# Altium schematic symbol library Capacitor TH.SchLib: 57 symbols
Pins are listed as number, name and electrical type; pins without a type are passive.

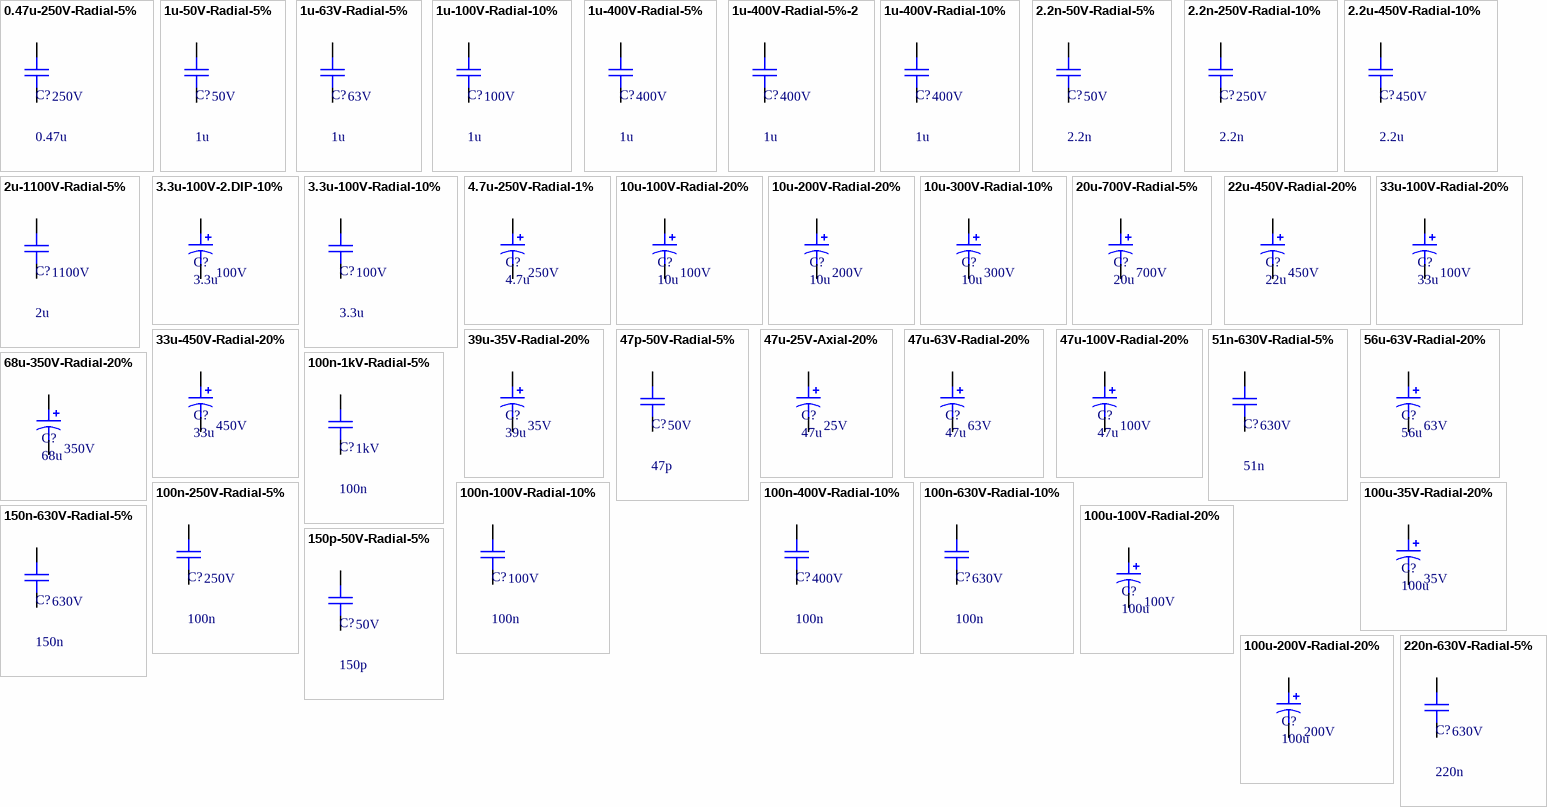
[diagram p0: symbols 0.47u-250V-Radial-5% to 220n-630V-Radial-5%]

## 0.47u-250V-Radial-5%
designator C?, comment 0.47u  VoltageRating: 250V
Capacitor, 0.47uF, 250V Voltage Rating, Radial Package; ManufacturerReference: R75II3470AA40J; ManufacturerName: KEMET; InventoryNumber: CAP049; Material: Film; Other: 5%, Polypropylene; PackageReference: Radial; DistributorReference: 399-5914-ND; DistributorName: Digikey; Value: 0.47uF; Category: Capacitor
pins: 1, 2

## 1u-50V-Radial-5%
designator C?, comment 1u  VoltageRating: 50V
Capacitor, 1uF, 50V Voltage Rating, Radial Package; ManufacturerReference: ECQ-V1H105JL; ManufacturerName: Panasonic Electronic Components; InventoryNumber: CAP054; Material: Film; Other: 5%, Polyester; PackageReference: Radial; DistributorReference: P4675-ND; DistributorName: Digikey; Value: 1uF; Category: Capacitor
pins: 1, 2

## 1u-63V-Radial-5%
designator C?, comment 1u  VoltageRating: 63V
Capacitor, 1uF, 63V Voltage Rating, Radial Package; InventoryNumber: CAP055; Material: Film; Other: 5%, Polyester; PackageReference: Radial; DistributorReference: 94M8808(NK); DistributorName: Digikey; Value: 1uF; Category: Capacitor
pins: 1, 2

## 1u-100V-Radial-10%
designator C?, comment 1u  VoltageRating: 100V
Capacitor, 1uF, 100V Voltage Rating, Radial Package; InventoryNumber: CAP056; Material: MLCC; Other: 10%, X7R; PackageReference: Radial; DistributorReference: 36K6241(NK); DistributorName: Digikey; Value: 1uF; Category: Capacitor
pins: 1, 2

## 1u-400V-Radial-5%
designator C?, comment 1u  VoltageRating: 400V
Capacitor, 1uF, 400V Voltage Rating, Radial Package; ManufacturerReference: ECW-F4105JB; ManufacturerName: Panasonic Electronic Components; InventoryNumber: CAP059; Material: Film; Other: 5%, Polypropylene; PackageReference: Radial; DistributorReference: PF4105-ND; DistributorName: Digikey; Value: 1uF; Category: Capacitor
pins: 1, 2

## 1u-400V-Radial-5%-2
designator C?, comment 1u  VoltageRating: 400V
Capacitor, 1uF, 400V Voltage Rating, Radial Package; ManufacturerReference: BFC237954105; ManufacturerName: Vishay BC Components; InventoryNumber: CAP060; Material: Film; Other: 5%, Polypropylene; PackageReference: Radial; DistributorReference: BFC237954105-ND; DistributorName: Digikey; Value: 1uF; Category: Capacitor
pins: 1, 2

## 1u-400V-Radial-10%
designator C?, comment 1u  VoltageRating: 400V
Capacitor, 1uF, 400V Voltage Rating, Radial Package; ManufacturerReference: ECQ-E4105KF; ManufacturerName: Panasonic Electronic Components; InventoryNumber: CAP058; Material: Film; Other: 10%, Polyester; PackageReference: Radial; DistributorReference: EF4105-ND; DistributorName: Digikey; Value: 1uF; Category: Capacitor
pins: 1, 2

## 2.2n-50V-Radial-5%
designator C?, comment 2.2n  VoltageRating: 50V
Capacitor, 2.2nF, 50V Voltage Rating, Radial Package; ManufacturerReference: B37979G5222J051; ManufacturerName: EPCOS (TDK); InventoryNumber: CAP021; Material: Ceramic; Other: 5%, C0G; PackageReference: Radial; DistributorReference: 495-3286-2-ND; DistributorName: Digikey; Value: 2.2nF; Category: Capacitor
pins: 1, 2

## 2.2n-250V-Radial-10%
designator C?, comment 2.2n  VoltageRating: 250V
Capacitor, 2.2nF, 250V Voltage Rating, Radial Package; ManufacturerReference: FK24X7R2E222K; ManufacturerName: TDK Corporation; InventoryNumber: CAP022; Material: Ceramic; Other: 10%, X7R; PackageReference: Radial; DistributorReference: 445-2629-ND; DistributorName: Digikey; Value: 2.2nF; Category: Capacitor
pins: 1, 2

## 2.2u-450V-Radial-10%
designator C?, comment 2.2u  VoltageRating: 450V
Capacitor, 2.2uF, 450V Voltage Rating, Radial Package; ManufacturerReference: ECQ-E2W225KH; ManufacturerName: Panasonic Electronic Components; InventoryNumber: CAP103; Material: Film; Other: 10%, Polyester; PackageReference: Radial; DistributorReference: E6829-ND; DistributorName: Digikey; Value: 2.2uF; Category: Capacitor
pins: 1, 2

## 2u-1100V-Radial-5%
designator C?, comment 2u  VoltageRating: 1100V
Capacitor, 2uF, 1100V Voltage Rating, Radial Package; ManufacturerReference: MKP1848520914K2; ManufacturerName: Vishay BC Components; InventoryNumber: CAP104; Material: Film; Other: 5%, Polypropylene; PackageReference: Radial; DistributorReference: MKP1848520914K2-ND; DistributorName: Digikey; Value: 2uF; Category: Capacitor
pins: 1, 2

## 3.3u-100V-2.DIP-10%
designator C?, comment 3.3u  VoltageRating: 100V
Polarized Capacitor, 3.3uF, 100V Voltage Rating, 2-DIP Package; ManufacturerReference: B32562J1335K000; ManufacturerName: EPCOS (TDK); Other: 10%; InventoryNumber: CAP220; Material: Polyester; PackageReference: 2-DIP; DistributorReference: 495-6851-ND; DistributorName: Digikey; Value: 3.3uF
pins: 1, 2

## 3.3u-100V-Radial-10%
designator C?, comment 3.3u  VoltageRating: 100V
Capacitor, 3.3uF, 100V Voltage Rating, Radial Package; ManufacturerReference: B32562J1335K189; ManufacturerName: EPCOS (TDK); InventoryNumber: CAP105; Material: Film; Other: 10%, Polyester; PackageReference: Radial; DistributorReference: B32562J1335K189-ND; DistributorName: Digikey; Value: 3.3uF; Category: Capacitor
pins: 1, 2

## 4.7u-250V-Radial-1%
designator C?, comment 4.7u  VoltageRating: 250V
Polarized Capacitor, 4.7u, 250V Voltage Rating, Radial Package; ManufacturerReference: ECQ-E2475KF; ManufacturerName: Panasonic Electronic Components; Value: 4.7uF; Other: 1%, Polyester; InventoryNumber: CAP110; Material: Film; PackageReference: Radial; DistributorReference: EF2475-ND; DistributorName: Digikey
pins: 1, 2

## 10u-100V-Radial-20%
designator C?, comment 10u  VoltageRating: 100V
Polarized Capacitor, 10uF, 100V Voltage Rating, Radial Package; ManufacturerReference: PLV2A100MDL1; ManufacturerName: Nichicon; Other: 20%, 3000hr @105C, 42mohm-ESR; InventoryNumber: CAP119; Material: Alum; PackageReference: Radial; DistributorReference: 493-14192-ND; DistributorName: Digikey; Value: 10uF
pins: 1, 2

## 10u-200V-Radial-20%
designator C?, comment 10u  VoltageRating: 200V
Polarized Capacitor, 10uF, 200V Voltage Rating, Radial Package; ManufacturerReference: UCS2D100MPD1TD; ManufacturerName: Nichicon; Other: 20%, 8000hr @105C; InventoryNumber: CAP117; Material: Alum; PackageReference: Radial; DistributorReference: 493-4740-1-ND; DistributorName: Digikey; Value: 10u
pins: 1, 2

## 10u-300V-Radial-10%
designator C?, comment 10u  VoltageRating: 300V
Polarized Capacitor, 10uF, 300V Voltage Rating, Radial Package; ManufacturerReference: B32674D3106K000; ManufacturerName: EPCOS (TDK); Other: 10%, Polypropylene; InventoryNumber: CAP118; Material: Film; PackageReference: Radial; DistributorReference: 495-2915-ND; DistributorName: Digikey; Value: 10uF
pins: 1, 2

## 20u-700V-Radial-5%
designator C?, comment 20u  VoltageRating: 700V
Polarized Capacitor, 20uF, 700V Voltage Rating, Radial Package; ManufacturerReference: MKP1848620704P4; ManufacturerName: Vishay BC Components; Other: 5%, Polypropylene; InventoryNumber: CAP120; Material: Film; PackageReference: Radial; DistributorReference: BC2621-ND; DistributorName: Digikey; Value: 20uF
pins: 1, 2

## 22u-450V-Radial-20%
designator C?, comment 22u  VoltageRating: 450V
Polarized Capacitor, 22uF, 450V Voltage Rating, Radial Package; ManufacturerReference: UVR2W220MHD; ManufacturerName: Nichicon; Other: 20%, 85C; InventoryNumber: CAP122; Material: Alum; PackageReference: Radial; DistributorReference: 493-1242-ND; DistributorName: Digikey; Value: 22uF
pins: 1, 2

## 33u-100V-Radial-20%
designator C?, comment 33u  VoltageRating: 100V
Polarized Capacitor, 33uF, 100V Voltage Rating, Radial Package; ManufacturerReference: ECA-2AM330; ManufacturerName: Panasonic Electronic Components; Other: 20%, 85C; InventoryNumber: CAP123; Material: Alum; PackageReference: Radial; DistributorReference: P5311-ND; DistributorName: Digikey; Value: 33uF
pins: 1, 2

## 33u-450V-Radial-20%
designator C?, comment 33u  VoltageRating: 450V
Polarized Capacitor, 33uF, 450V Voltage Rating, Radial Package; ManufacturerReference: ESG336M450AM2AA; ManufacturerName: KEMET; Other: 20%, 5000hr@105C, 1.3ohm-ESR; InventoryNumber: CAP124; Material: Alum; PackageReference: Radial; DistributorReference: 399-6540-ND; DistributorName: Digikey; Value: 33uF
pins: 1, 2

## 39u-35V-Radial-20%
designator C?, comment 39u  VoltageRating: 35V
Polarized Capacitor, 39uF, 35V Voltage Rating, Radial Package; ManufacturerReference: EEU-FC1V390H; ManufacturerName: Panasonic Electronic Components; Other: 20%, 85C (Obsolete); InventoryNumber: CAP125; Material: Alum; PackageReference: Radial; DistributorReference: EEU-FC1V390H-ND; DistributorName: Digikey; Value: 39uF
pins: 1, 2

## 47p-50V-Radial-5%
designator C?, comment 47p  VoltageRating: 50V
Capacitor, 47pF, 50V Voltage rating, Radial package; ManufacturerReference: FK28C0G1H470J; ManufacturerName: TDK Corporation; InventoryNumber: CAP005; Material: MLCC; Other: 5%, C0G; PackageReference: RADIAL; DistributorReference: 445-4722-ND; DistributorName: Digikey; Value: 47pF; Category: Capacitor
pins: 1, 2

## 47u-25V-Axial-20%
designator C?, comment 47u  VoltageRating: 25V
Polarized Capacitor, 47uF, 25V Voltage Rating, Axial Package; ManufacturerReference: MAL213836479E3; ManufacturerName: Vishay BC Components; Other: 20%, 4.7ohm-ESR, 105C; InventoryNumber: CAP127; Material: Alum; PackageReference: Axial; DistributorReference: 4214PHCT-ND; DistributorName: Digikey; Value: 47uF
pins: 1, 2

## 47u-63V-Radial-20%
designator C?, comment 47u  VoltageRating: 63V
Polarized Capacitor, 47uF, 63V Voltage Rating, Radial Package; ManufacturerReference: PLV1J470MDL1TD; ManufacturerName: Nichicon; Other: 20%, 29mohm-ESR, 105C; InventoryNumber: CAP128; Material: Alum; PackageReference: Radial; DistributorReference: 493-3874-1-ND; DistributorName: Digikey; Value: 47uF
pins: 1, 2

## 47u-100V-Radial-20%
designator C?, comment 47u  VoltageRating: 100V
Polarized Capacitor, 47uF, 100V Voltage Rating, Radial Package; ManufacturerReference: UVY2A470MPD1TD; ManufacturerName: Nichicon; Other: 20%, 105C; InventoryNumber: CAP129; Material: Alum; PackageReference: Radial; DistributorReference: 493-12955-3-ND; DistributorName: Digikey; Value: 47uF
pins: 1, 2

## 51n-630V-Radial-5%
designator C?, comment 51n  VoltageRating: 630V
Capacitor, 51nF, 630V Voltage Rating, Radial Package; ManufacturerReference: BFC238320513; ManufacturerName: Vishay BC Components; InventoryNumber: CAP032; Material: Film; Other: 5%, Polypropylene; PackageReference: Radial; DistributorReference: BC1873-ND; DistributorName: Digikey; Value: 51nF; Category: Capacitor
pins: 1, 2

## 56u-63V-Radial-20%
designator C?, comment 56u  VoltageRating: 63V
Polarized Capacitor, 56uF, 63V Voltage Rating, Radial Package; ManufacturerReference: RNU1J560MDN1PH; ManufacturerName: Nichicon; Other: 20%,25mohm-ESR, 105C; InventoryNumber: CAP201; Material: Alum; PackageReference: Radial; DistributorReference: 493-6641-1-ND; DistributorName: Digikey; Value: 56uF
pins: 1, 2

## 68u-350V-Radial-20%
designator C?, comment 68u  VoltageRating: 350V
Polarized Capacitor, 68uF, 350V Voltage Rating, Radial Package; ManufacturerReference: EEU-ED2V680S; ManufacturerName: Panasonic Electronic Components; Other: 20%, 105C; InventoryNumber: CAP130; Material: Alum; PackageReference: Radial; DistributorReference: P13556-ND; DistributorName: Digikey; Value: 68uF
pins: 1, 2

## 100n-1kV-Radial-5%
designator C?, comment 100n  VoltageRating: 1kV
Capacitor, 100nF, 1kV Voltage Rating, Radial Package; ManufacturerReference: B32652A0104J000; ManufacturerName: EPCOS (TDK); InventoryNumber: CAP041; Material: Film; Other: 5%, Polypropylene; PackageReference: Radial; DistributorReference: 495-1356-ND; DistributorName: Digikey; Value: 100nF; Category: Capacitor
pins: 1, 2

## 100n-100V-Radial-10%
designator C?, comment 100n  VoltageRating: 100V
Capacitor, `100nF, 100V Voltage Rating, Radial Package; ManufacturerReference: SR201C104KAR; ManufacturerName: AVX Corporation; InventoryNumber: CAP034; Material: Ceramic; Other: 10%, X7R; Value: 100nF; PackageReference: Radial; DistributorReference: 478-4855-ND; DistributorName: Digikey; Category: Capacitor
pins: 1, 2

## 100n-250V-Radial-5%
designator C?, comment 100n  VoltageRating: 250V
Capacitor, 100nF, 250V Voltage Rating, Radial Package; ManufacturerReference: ECW-F2104JB; ManufacturerName: Panasonic Electronic Components; InventoryNumber: CAP038; Material: Film; Other: 5%, Polypropylene; PackageReference: Radial; DistributorReference: PF2104-ND; DistributorName: Digikey; Value: 100nF; Category: Capacitor
pins: 1, 2

## 100n-400V-Radial-10%
designator C?, comment 100n  VoltageRating: 400V
Capacitor, 100nF, 400V Voltage Rating, Radial Package; ManufacturerReference: ECQ-E4104KF; ManufacturerName: Panasonic Electronic Components; InventoryNumber: CAP039; Material: Film; Other: 10%, Polyester; PackageReference: Radial; DistributorReference: EF4104-ND; DistributorName: Digikey; Value: 100nF; Category: Capacitor
pins: 1, 2

## 100n-630V-Radial-10%
designator C?, comment 100n  VoltageRating: 630V
Capacitor, 100nF, 630V Voltage Rating, Ceramic Package; ManufacturerReference: RDER72J104K4K1H03B; ManufacturerName: Murata Electronics North America; InventoryNumber: CAP040; Other: 10%,X7R; PackageReference: Radial; DistributorReference: 490-8928-ND; DistributorName: Digikey; Material: Ceramic; Value: 100nF; Category: Capacitor
pins: 1, 2

## 100u-35V-Radial-20%
designator C?, comment 100u  VoltageRating: 35V
Polarized Capacitor, 100uF, 35V Voltage Rating, Radial Package; ManufacturerReference: ECA-1VM101; ManufacturerName: Panasonic Electronic Components; Other: 20%, 85C; InventoryNumber: CAP203; Material: Alum; PackageReference: Radial; DistributorReference: P5165-ND; DistributorName: Digikey; Value: 100uF
pins: 1, 2

## 100u-100V-Radial-20%
designator C?, comment 100u  VoltageRating: 100V
Polarized Capacitor, 100uF, 100V Voltage Rating, Radial Package; ManufacturerReference: UHE2A101MPD; ManufacturerName: Nichicon; Other: 20%, 105C; InventoryNumber: CAP204; Material: Alum; PackageReference: Radial; DistributorReference: 493-1668-ND; DistributorName: Digikey; Value: 100uF
pins: 1, 2

## 100u-200V-Radial-20%
designator C?, comment 100u  VoltageRating: 200V
Polarized Capacitor, 100uF, 200V Voltage Rating, Radial Package; ManufacturerReference: EEU-EB2D101; ManufacturerName: Panasonic Electronic Components; Other: 20%, 105C; InventoryNumber: CAP205; Material: Alum; PackageReference: Radial; DistributorReference: P5917-ND; DistributorName: Digikey; Value: 100uF
pins: 1, 2

## 150n-630V-Radial-5%
designator C?, comment 150n  VoltageRating: 630V
Capacitor, 150nF, 630V Voltage Rating, Radial Package; ManufacturerReference: B32652A6154J000; ManufacturerName: EPCOS (TDK); InventoryNumber: CAP042; Material: Film; Other: 5%, Polypropylene; PackageReference: Radial; DistributorReference: 495-1334-ND; DistributorName: Digikey; Value: 150nF; Category: Capacitor
pins: 1, 2

## 150p-50V-Radial-5%
designator C?, comment 150p  VoltageRating: 50V
Capacitor, 150pF, 50V Voltage Rating, Radial Package; ManufacturerReference: K151J15C0GF5TL2; ManufacturerName: Vishay BC Components; InventoryNumber: CAP010; Material: Ceramic; Other: 5%, C0G; PackageReference: Radial; DistributorReference: BC1015CT-ND; DistributorName: Digikey; Value: 150pF; Category: Capacitor
pins: 1, 2

## 220n-630V-Radial-5%
designator C?, comment 220n  VoltageRating: 630V
Capacitor, 220nF, 630V Voltage Rating, Radial Package; InventoryNumber: CAP044; Material: Film; Other: 5%, Obsolete; PackageReference: Radial; DistributorReference: 495-3178-ND; DistributorName: Digikey; Value: 220nF; Category: Capacitor
pins: 1, 2

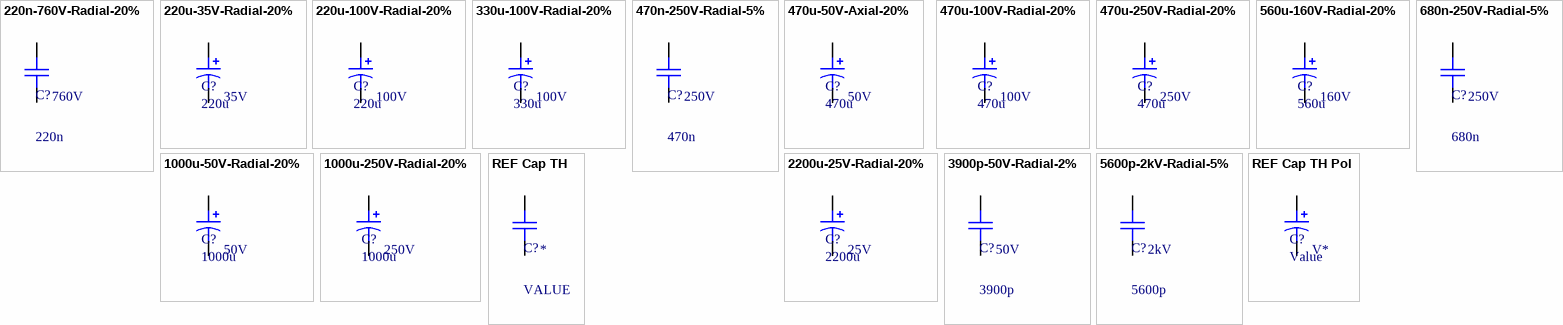
[diagram p1: symbols 220n-760V-Radial-20% to REF Cap TH Pol]

## 220n-760V-Radial-20%
designator C?, comment 220n  VoltageRating: 760V
Capacitor, 220nF, 760V Voltage Rating, Radial Package; ManufacturerReference: B32912B3224M000; ManufacturerName: EPCOS (TDK); InventoryNumber: CAP045; Material: Film; Other: 20%, Polypropylene; PackageReference: Radial; DistributorReference: 495-3246-ND; DistributorName: Digikey; Value: 220nF; Category: Capacitor
pins: 1, 2

## 220u-35V-Radial-20%
designator C?, comment 220u  VoltageRating: 35V
Polarized Capacitor, 220uF, 35V Voltage Rating, Radial Package; ManufacturerReference: EEU-FM1V221; ManufacturerName: Panasonic Electronic Components; Other: 20%, 105C; InventoryNumber: CAP207; Material: Alum; PackageReference: Radial; DistributorReference: P12411-ND; DistributorName: Digikey; Value: 220uF
pins: 1, 2

## 220u-100V-Radial-20%
designator C?, comment 220u  VoltageRating: 100V
Polarized Capacitor, 220uF, 100V Voltage Rating, Radial Package; ManufacturerReference: UPW2A221MHD; ManufacturerName: Nichicon; Other: 20%, 8000hr, 105C; InventoryNumber: CAP209; Material: Alum; PackageReference: Radial; DistributorReference: 493-1981-ND; DistributorName: Digikey; Value: 220uF
pins: 1, 2

## 330u-100V-Radial-20%
designator C?, comment 330u  VoltageRating: 100V
Polarized Capacitor, 330uF, 100V Voltage Rating, Radial Package; ManufacturerReference: EKZE101ELL331MK35S; ManufacturerName: United Chemi-Con; Other: 20%, 5000hr, 105C; InventoryNumber: CAP210; Material: Alum; PackageReference: Radial; DistributorReference: 565-1741-ND; DistributorName: Digikey; Value: 330uF
pins: 1, 2

## 470n-250V-Radial-5%
designator C?, comment 470n  VoltageRating: 250V
Capacitor, 470nF, 250V Voltage Rating, Radial Package; ManufacturerReference: ECW-F2474JB; ManufacturerName: Panasonic Electronic Components; InventoryNumber: CAP048; Material: Film; Other: 5%, Polypropylene; PackageReference: Radial; DistributorReference: PF2474-ND; DistributorName: Digikey; Value: 470nF; Category: Capacitor
pins: 1, 2

## 470u-50V-Axial-20%
designator C?, comment 470u  VoltageRating: 50V
Polarized Capacitor, 470uF, 50V Voltage Rating, Axial Package; ManufacturerReference: TVX1H471MCD; ManufacturerName: Nichicon; Other: 20%, 2000hr, 85C; InventoryNumber: CAP211; Material: Alum; PackageReference: Axial; DistributorReference: 493-13374-ND; DistributorName: Digikey; Value: 470uF
pins: 1, 2

## 470u-100V-Radial-20%
designator C?, comment 470u  VoltageRating: 100V
Polarized Capacitor, 470uF, 100V Voltage Rating, Radial Package; ManufacturerReference: UVZ2A471MHD; ManufacturerName: Nichicon; Other: 20%, 1000hr, 105C; InventoryNumber: CAP212; Material: Alum; PackageReference: Radial; DistributorReference: 493-1379-ND; DistributorName: Digikey; Value: 470uF
pins: 1, 2

## 470u-250V-Radial-20%
designator C?, comment 470u  VoltageRating: 250V
Polarized Capacitor, 470uF, 250V Voltage Rating, Radial Package; ManufacturerReference: EET-HC2E471JA; ManufacturerName: Panasonic Electronic Components; Other: 20%, 353mohm, 2000hr, 105C; InventoryNumber: CAP213; Material: Alum; PackageReference: Radial; DistributorReference: P14000-ND; DistributorName: Digikey; Value: 470uF
pins: 1, 2

## 560u-160V-Radial-20%
designator C?, comment 560u  VoltageRating: 160V
Polarized Capacitor, 560uF, 160V Voltage Rating, Radial Package; ManufacturerReference: LLS2C561MELA; ManufacturerName: Nichicon; Other: 20%, 3000hr, 85C; InventoryNumber: CAP217; Material: Alum; PackageReference: Radial; DistributorReference: 493-2452-ND; DistributorName: Digikey; Value: 560uF
pins: 1, 2

## 680n-250V-Radial-5%
designator C?, comment 680n  VoltageRating: 250V
Capacitor, 680nF, 250V Voltage Rating, Radial Package; ManufacturerReference: B32652A3684J000; ManufacturerName: EPCOS (TDK); InventoryNumber: CAP050; Material: Poly; Other: 5%, Polypropylene; PackageReference: Radial; DistributorReference: 495-1299-ND; DistributorName: Digikey; Value: 680nF; Category: Capacitor
pins: 1, 2

## 1000u-50V-Radial-20%
designator C?, comment 1000u  VoltageRating: 50V
Polarized Capacitor, 1000uF, 50V Voltage Rating, Radial Package; ManufacturerReference: EEU-FM1H102; ManufacturerName: Panasonic Electronic Components; Other: 20%, 7000hr, 105C; InventoryNumber: CAP218; Material: Alum; PackageReference: Radial; DistributorReference: P12393-ND; DistributorName: Digikey; Value: 1000uF
pins: 1, 2

## 1000u-250V-Radial-20%
designator C?, comment 1000u  VoltageRating: 250V
Polarized Capacitor, 1000uF, 250V Voltage Rating, Radial Package; ManufacturerReference: ECO-S2EP102DX; ManufacturerName: Panasonic Electronic Components; Other: 20%; InventoryNumber: CAP214; Material: Alum; PackageReference: Radial; DistributorReference: P7410-ND; DistributorName: Digikey; Value: 1000uF
pins: 1, 2

## 2200u-25V-Radial-20%
designator C?, comment 2200u  VoltageRating: 25V
Polarized Capacitor, 2200uF, 25V Voltage Rating, Radial Package; ManufacturerReference: EKZE250ELL222MK35S; ManufacturerName: United Chemi-Con; Other: 20%, 5000hr, 105C; InventoryNumber: CAP215; Material: Alum; PackageReference: Radial; DistributorReference: 565-1685-ND; DistributorName: Digikey; Value: 2200uF
pins: 1, 2

## 3900p-50V-Radial-2%
designator C?, comment 3900p  VoltageRating: 50V
Capacitor, 3900pF, 50V Voltage Rating, Radial Package; ManufacturerReference: ECH-S1H392GZ; ManufacturerName: Panasonic Electronic Components; InventoryNumber: CAP023; Material: Film; Other: 2%; PackageReference: Radial; DistributorReference: PS1H392G-ND; DistributorName: Digikey; Value: 3900pF; Category: Capacitor
pins: 1, 2

## 5600p-2kV-Radial-5%
designator C?, comment 5600p  VoltageRating: 2kV
Capacitor, 5600pF, 2kV Voltage Rating, Radial Package; ManufacturerReference: B32672L8562J000; ManufacturerName: EPCOS (TDK); InventoryNumber: CAP025; Material: Film; Other: 5%, Polypropylene; PackageReference: Radial; DistributorReference: 495-3228-ND; DistributorName: Digikey; Value: 5600pF; Category: Capacitor
pins: 1, 2

## REF Cap TH
designator C?, comment VALUE
Capacitor, , Voltage Rating, Package; PackageReference: *; DistributorReference: *; DistributorName: Digikey; InventoryNumber: *; Material: *; Value: *; Category: Capacitor; VoltageRating: *
pins: 1, 2

## REF Cap TH Pol
designator C?, comment Value  VoltageRating: V*
Polarized Capacitor, , Voltage Rating, Package; InventoryNumber: CAP; PackageReference: *; DistributorReference: *; DistributorName: Digikey; Value: *; Material: *
pins: 1, 2